# Altium schematic symbol library components.SchLib: 5 symbols
Pins are listed as number, name and electrical type; pins without a type are passive.

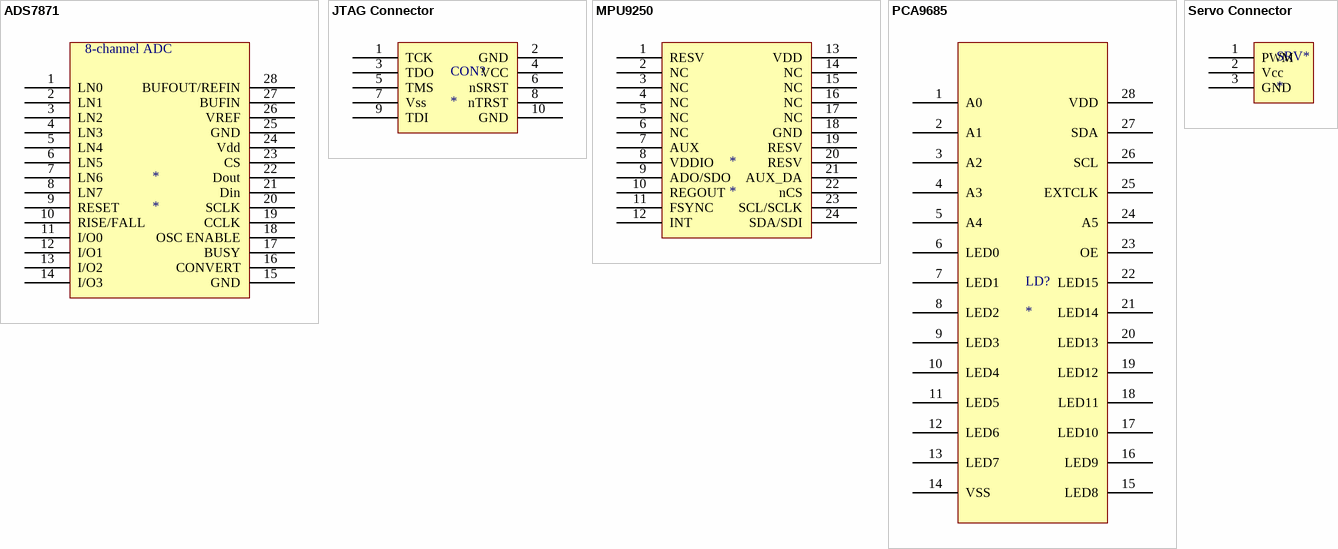
[diagram p0: symbols ADS7871 to Servo Connector]

## ADS7871
designator *
pins: 1 LN0, 2 LN1, 3 LN2, 4 LN3, 5 LN4, 6 LN5, 7 LN6, 8 LN7, 9 RESET, 10 RISE/FALL, 11 I/O0, 12 I/O1, 13 I/O2, 14 I/O3, 15 GND, 16 CONVERT, 17 BUSY, 18 OSC ENABLE, 19 CCLK, 20 SCLK, 21 Din, 22 Dout, 23 CS, 24 Vdd, 25 GND, 26 VREF, 27 BUFIN, 28 BUFOUT/REFIN
text: 8-channel ADC

## JTAG Connector
designator CON?
pins: 1 TCK, 2 GND, 3 TDO, 4 VCC, 5 TMS, 6 nSRST, 7 Vss, 8 nTRST, 9 TDI, 10 GND

## MPU9250
designator *
pins: 1 RESV, 2 NC, 3 NC, 4 NC, 5 NC, 6 NC, 7 AUX, 8 VDDIO, 9 ADO/SDO, 10 REGOUT, 11 FSYNC, 12 INT, 13 VDD, 14 NC, 15 NC, 16 NC, 17 NC, 18 GND, 19 RESV, 20 RESV, 21 AUX_DA, 22 nCS, 23 SCL/SCLK, 24 SDA/SDI

## PCA9685
designator LD?
pins: 1 A0 "asd", 2 A1, 3 A2, 4 A3, 5 A4, 6 LED0, 7 LED1, 8 LED2, 9 LED3, 10 LED4, 11 LED5, 12 LED6, 13 LED7, 14 VSS, 15 LED8, 16 LED9, 17 LED10, 18 LED11, 19 LED12, 20 LED13, 21 LED14, 22 LED15, 23 OE, 24 A5, 25 EXTCLK, 26 SCL, 27 SDA, 28 VDD

## Servo Connector
designator SRV*
pins: 1 PWM, 2 Vcc, 3 GND